# EAGLE library part TLP227G-2 (library relay)
Photocoupler Photo Relay
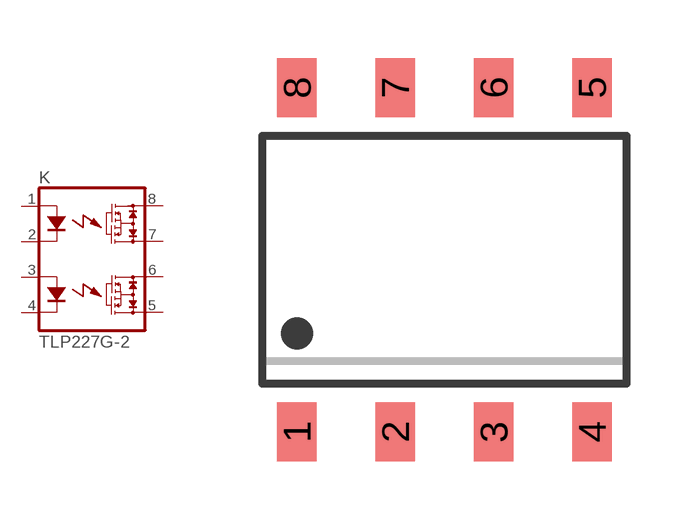
[diagram p60: symbol with the pads of SMD8; footprint SMD8]

Designator prefix K

## TLP227G-2  [SMD8]
1  A1  pas
2  K1  pas
3  A2  pas
4  K2  pas
5  D1  pas
6  D2  pas
7  D3  pas
8  D4  pas

## Footprint SMD8 (pad centres in mm)
8-SMD (0.300", 7.62mm)
smd 1.016 x 1.524: 1 -3.81,-4.445; 2 -1.27,-4.445; 3 1.27,-4.445; 4 3.81,-4.445; 5 3.81,4.445; 6 1.27,4.445; 7 -1.27,4.445; 8 -3.81,4.445